# Altium footprint library TE_1473005-1.PcbLib: 1 footprints
Each footprint in its own frame and in the unit in brackets; x right, y up, seen from the top. Pads: shape width x height; smd on the part's side, far side on the other; paste and mask are expansions set on the pad; w line width, h text height; cw(c..) or ccw(c..) is an arc to the next point about the centre after c.
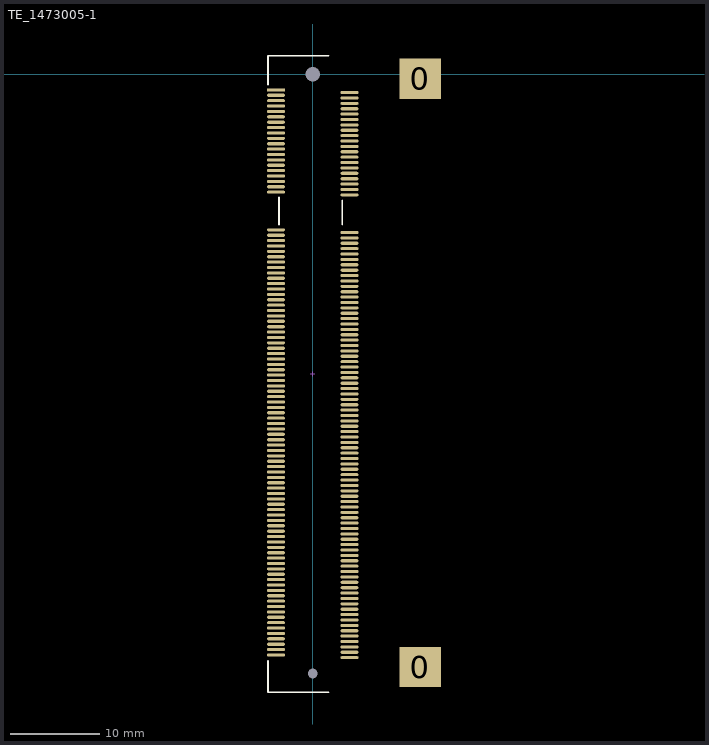
[diagram p0: the footprint, top view; thin cyan lines are the x and y axes]

## TE_1473005-1 [mm] "DDR2 SODIMM Socket, Right Angle"
pads (204):
  round 0 hole 1.1 unplated: 0(0,-66.8)
  round 0 hole 1.6 unplated: 0(0,0)
  rect 4.6x4.5 smd: 0(12,-66.1) 0(12,-0.5)
  rect 2x0.35 smd mask+0.05: 1(-4.1,-1.75)
  oval 2x0.35 smd mask+0.05: 2(4.1,-2.05) 3(-4.1,-2.35) 4(4.1,-2.65) 5(-4.1,-2.95) 6(4.1,-3.25) 7(-4.1,-3.55) 8(4.1,-3.85) 9(-4.1,-4.15) 10(4.1,-4.45) 11(-4.1,-4.75) 12(4.1,-5.05) 13(-4.1,-5.35) 14(4.1,-5.65) 15(-4.1,-5.95) 16(4.1,-6.25) 17(-4.1,-6.55) 18(4.1,-6.85) 19(-4.1,-7.15) 20(4.1,-7.45) 21(-4.1,-7.75) 22(4.1,-8.05) 23(-4.1,-8.35) 24(4.1,-8.65) 25(-4.1,-8.95) 26(4.1,-9.25) 27(-4.1,-9.55) 28(4.1,-9.85) 29(-4.1,-10.15) 30(4.1,-10.45) 31(-4.1,-10.75) 32(4.1,-11.05) 33(-4.1,-11.35) 34(4.1,-11.65) 35(-4.1,-11.95) 36(4.1,-12.25) 37(-4.1,-12.55) 38(4.1,-12.85) 39(-4.1,-13.15) 40(4.1,-13.45) 41(-4.1,-17.35) 42(4.1,-17.65) 43(-4.1,-17.95) 44(4.1,-18.25) 45(-4.1,-18.55) 46(4.1,-18.85) 47(-4.1,-19.15) 48(4.1,-19.45) 49(-4.1,-19.75) 50(4.1,-20.05) 51(-4.1,-20.35) 52(4.1,-20.65) 53(-4.1,-20.95) 54(4.1,-21.25) 55(-4.1,-21.55) 56(4.1,-21.85) 57(-4.1,-22.15) 58(4.1,-22.45) 59(-4.1,-22.75) 60(4.1,-23.05) 61(-4.1,-23.35) 62(4.1,-23.65) 63(-4.1,-23.95) 64(4.1,-24.25) 65(-4.1,-24.55) 66(4.1,-24.85) 67(-4.1,-25.15) 68(4.1,-25.45) 69(-4.1,-25.75) 70(4.1,-26.05) 71(-4.1,-26.35) 72(4.1,-26.65) 73(-4.1,-26.95) 74(4.1,-27.25) 75(-4.1,-27.55) 76(4.1,-27.85) 77(-4.1,-28.15) 78(4.1,-28.45) 79(-4.1,-28.75) 80(4.1,-29.05) 81(-4.1,-29.35) 82(4.1,-29.65) 83(-4.1,-29.95) 84(4.1,-30.25) 85(-4.1,-30.55) 86(4.1,-30.85) 87(-4.1,-31.15) 88(4.1,-31.45) 89(-4.1,-31.75) 90(4.1,-32.05) 91(-4.1,-32.35) 92(4.1,-32.65) 93(-4.1,-32.95) 94(4.1,-33.25) 95(-4.1,-33.55) 96(4.1,-33.85) 97(-4.1,-34.15) 98(4.1,-34.45) 99(-4.1,-34.75) 100(4.1,-35.05) 101(-4.1,-35.35) 102(4.1,-35.65) 103(-4.1,-35.95) 104(4.1,-36.25) 105(-4.1,-36.55) 106(4.1,-36.85) 107(-4.1,-37.15) 108(4.1,-37.45) 109(-4.1,-37.75) 110(4.1,-38.05) 111(-4.1,-38.35) 112(4.1,-38.65) 113(-4.1,-38.95) 114(4.1,-39.25) 115(-4.1,-39.55) 116(4.1,-39.85) 117(-4.1,-40.15) 118(4.1,-40.45) 119(-4.1,-40.75) 120(4.1,-41.05) 121(-4.1,-41.35) 122(4.1,-41.65) 123(-4.1,-41.95) 124(4.1,-42.25) 125(-4.1,-42.55) 126(4.1,-42.85) 127(-4.1,-43.15) 128(4.1,-43.45) 129(-4.1,-43.75) 130(4.1,-44.05) 131(-4.1,-44.35) 132(4.1,-44.65) 133(-4.1,-44.95) 134(4.1,-45.25) 135(-4.1,-45.55) 136(4.1,-45.85) 137(-4.1,-46.15) 138(4.1,-46.45) 139(-4.1,-46.75) 140(4.1,-47.05) 141(-4.1,-47.35) 142(4.1,-47.65) 143(-4.1,-47.95) 144(4.1,-48.25) 145(-4.1,-48.55) 146(4.1,-48.85) 147(-4.1,-49.15) 148(4.1,-49.45) 149(-4.1,-49.75) 150(4.1,-50.05) 151(-4.1,-50.35) 152(4.1,-50.65) 153(-4.1,-50.95) 154(4.1,-51.25) 155(-4.1,-51.55) 156(4.1,-51.85) 157(-4.1,-52.15) 158(4.1,-52.45) 159(-4.1,-52.75) 160(4.1,-53.05) 161(-4.1,-53.35) 162(4.1,-53.65) 163(-4.1,-53.95) 164(4.1,-54.25) 165(-4.1,-54.55) 166(4.1,-54.85) 167(-4.1,-55.15) 168(4.1,-55.45) 169(-4.1,-55.75) 170(4.1,-56.05) 171(-4.1,-56.35) 172(4.1,-56.65) 173(-4.1,-56.95) 174(4.1,-57.25) 175(-4.1,-57.55) 176(4.1,-57.85) 177(-4.1,-58.15) 178(4.1,-58.45) 179(-4.1,-58.75) 180(4.1,-59.05) 181(-4.1,-59.35) 182(4.1,-59.65) 183(-4.1,-59.95) 184(4.1,-60.25) 185(-4.1,-60.55) 186(4.1,-60.85) 187(-4.1,-61.15) 188(4.1,-61.45) 189(-4.1,-61.75) 190(4.1,-62.05) 191(-4.1,-62.35) 192(4.1,-62.65) 193(-4.1,-62.95) 194(4.1,-63.25) 195(-4.1,-63.55) 196(4.1,-63.85) 197(-4.1,-64.15) 198(4.1,-64.45) 199(-4.1,-64.75) 200(4.1,-65.05)
Top Overlay:
  lines w0.2: -5,-65.4 -5,-68.9 1.75,-68.9 ; -5,-1.15 -5,2.05 1.75,2.05 ; -3.75,-16.75 -3.75,-13.75 ; 3.3,-16.75 3.3,-14.05
Mechanical 15:
  lines w0.05: -0.25,-33.4 0.25,-33.4 ; 0,-33.65 0,-33.15
3D body "TE_1473005-1.stp": height 5.24, standoff -0.66, extent -5,-69.15 21.05,2.35